# EAGLE library part MS56XX-0XBA0X (library CPSS_SENSOR)
TE Connnectivity MS5611-01BA03 Barometer
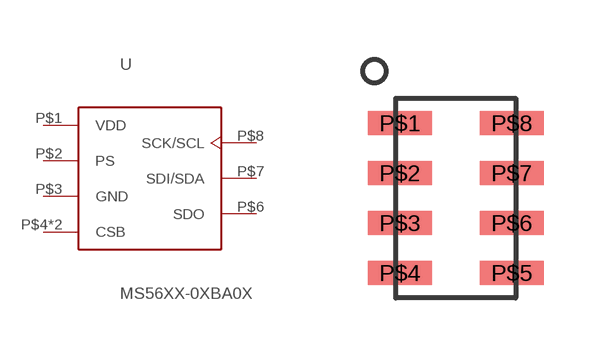
[diagram p2: symbol with the pads of MS56XX; footprint MS56XX]

Designator prefix U

## MS56XX-0XBA0X  [MS56XX]
P$1  VDD  pwr
P$2  PS  in
P$3  GND  sup
P$4  CSB  in
P$5  CSB  in
P$6  SDO  out
P$7  SDI/SDA
P$8  SCK/SCL  in

## Footprint MS56XX (pad centres in mm)
smd 1.6 x 0.6: P$1 -1.4,1.875; P$2 -1.4,0.625; P$3 -1.4,-0.625; P$4 -1.4,-1.875; P$5 1.4,-1.875; P$6 1.4,-0.625; P$7 1.4,0.625; P$8 1.4,1.875